# Altium schematic symbol library CSD17577Q3A.SchLib: 1 symbol
Pins are listed as number, name and electrical type; pins without a type are passive.

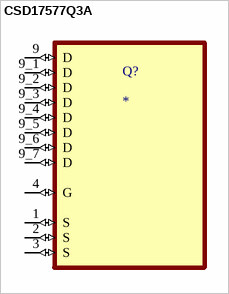
[diagram p0: symbol CSD17577Q3A]

## CSD17577Q3A
designator Q?
MP: CSD17577Q3A; MF: {'manufacturer': u'Texas Instruments'}; Price: None; Availability: Unavailable; Value: *; Package: None
footprint TRANS_CSD18543Q3A
pins: 1 S (io), 2 S (io), 3 S (io), 4 G (io), 9 D (io), 9_1 D (io), 9_2 D (io), 9_3 D (io), 9_4 D (io), 9_5 D (io), 9_6 D (io), 9_7 D (io)